# Altium schematic symbol library Conn,JST,2Pin,2.5mm,Thru.SchLib: 1 symbol
Pins are listed as number, name and electrical type; pins without a type are passive.

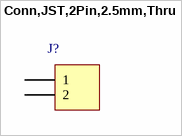
[diagram p0: symbol Conn,JST,2Pin,2.5mm,Thru]

## Conn,JST,2Pin,2.5mm,Thru
designator J?
pins: 1, 2